# Altium footprint library Mirror_Footprints.PcbLib: 29 footprints (part 1 of 3)
Each footprint in its own frame and in the unit in brackets; x right, y up, seen from the top. Pads: shape width x height; smd on the part's side, far side on the other; paste and mask are expansions set on the pad; w line width, h text height; cw(c..) or ccw(c..) is an arc to the next point about the centre after c.
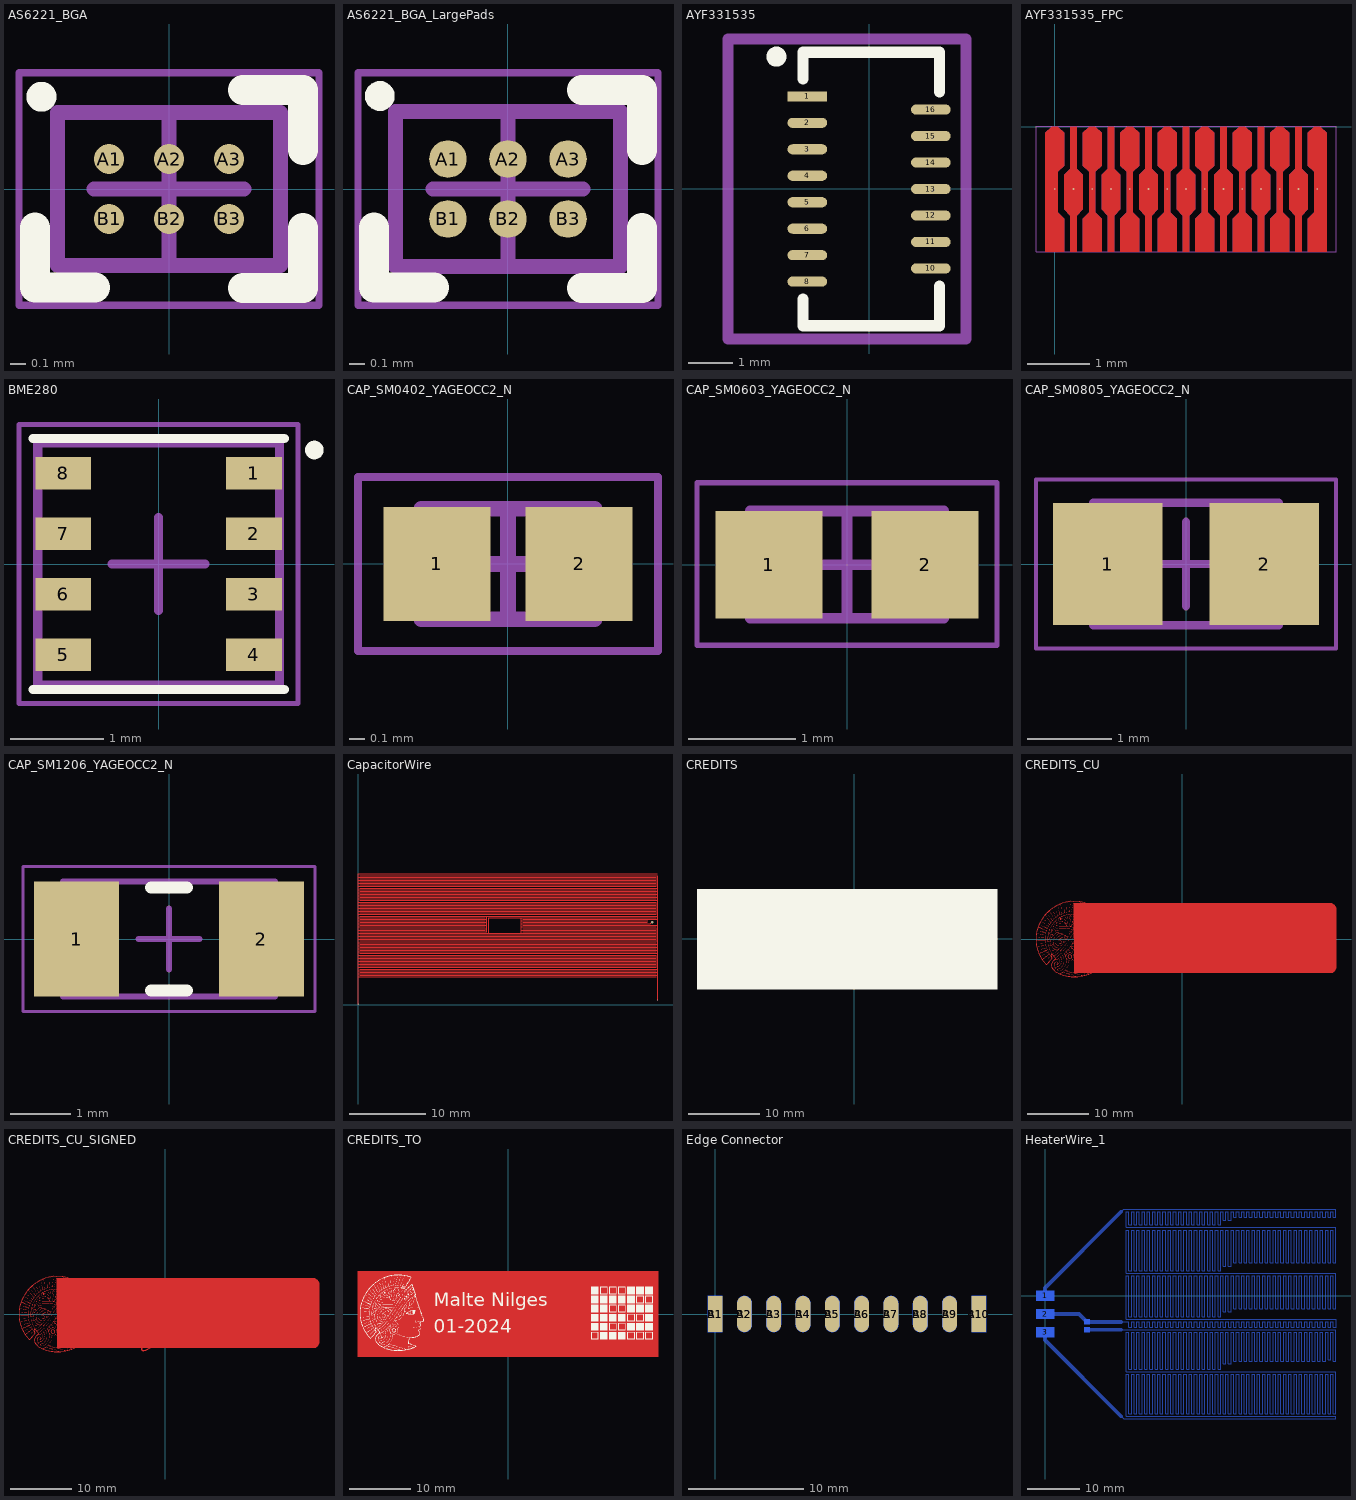
[diagram p0: the footprints below, top view; thin cyan lines are the x and y axes]

## AS6221_BGA [mm] "BGA, 6-Leads, Body 1,02x1,50mmx0,53mm, Pitch 0,40mm"
height 0.53
pads (6):
  round 0.2 smd: A1(-0.4,0.2) A2(0,0.2) A3(0.4,0.2) B1(-0.4,-0.2) B2(0,-0.2) B3(0.4,-0.2)
Top Overlay:
  circle w0.1: c-0.85,0.615 r0.05
  lines w0.2: -0.893,-0.256 -0.893,-0.656 -0.493,-0.656 ; 0.494,-0.66 0.894,-0.66 0.894,-0.26 ; 0.494,0.661 0.894,0.661 0.894,0.261
Top Courtyard:
  lines w0.05: -1,-0.775 -1,0.775 1,0.775 1,-0.775 -1,-0.775
  lines w0.1: -0.5,0 0.5,0 ; 0,-0.5 0,0.5
Mechanical 13:
  lines w0.1: -0.745,-0.51 -0.745,0.51 0.745,0.51 0.745,-0.51 -0.745,-0.51
3D body: height 0.55, standoff 0.18, extent -0.745,-0.51 0.745,0.51

## AS6221_BGA_LargePads [mm] "BGA, 6-Leads, Body 1.50x1.02mmx0.55mm, Pitch 0.40mm"
height 0.55
pads (6):
  round 0.25 smd paste-0.013: A1(-0.4,0.2) A2(0,0.2) A3(0.4,0.2) B1(-0.4,-0.2) B2(0,-0.2) B3(0.4,-0.2)
Top Overlay:
  circle w0.1: c-0.855,0.62 r0.05
  lines w0.2: -0.893,-0.256 -0.893,-0.656 -0.493,-0.656 ; 0.494,-0.66 0.894,-0.66 0.894,-0.26 ; 0.494,0.661 0.894,0.661 0.894,0.261
Top Solder:
  region: -0.625,-0.425 0.625,-0.425 0.625,0.425 -0.625,0.425
Top Courtyard:
  lines w0.05: -1,-0.775 -1,0.775 1,0.775 1,-0.775 -1,-0.775
  lines w0.1: -0.5,0 0.5,0 ; 0,-0.5 0,0.5
Top Assembly:
  lines w0.1: -0.75,-0.515 -0.75,0.515 0.75,0.515 0.75,-0.515 -0.75,-0.515
3D body: height 0.55, standoff 0.2, extent -0.75,-0.515 0.75,0.515

## AYF331535 [mm]
pads (15):
  rect 0.9x0.23 smd: 1(-1.4,2.1)
  oval 0.9x0.23 smd: 2(-1.4,1.5) 3(-1.4,0.9) 4(-1.4,0.3) 5(-1.4,-0.3) 6(-1.4,-0.9) 7(-1.4,-1.5) 8(-1.4,-2.1) 10(1.4,-1.8) 11(1.4,-1.2) 12(1.4,-0.6) 13(1.4,0) 14(1.4,0.6) 15(1.4,1.2) 16(1.4,1.8)
Top Overlay:
  circle w0.254: c-2.1,3 r0.1
  lines w0.254: -1.5,-2.5 -1.5,-3.1 1.6,-3.1 1.6,-2.2 ; -1.5,2.5 -1.5,3.1 1.6,3.1 1.6,2.2
Top Courtyard:
  lines w0.254: -3.2,-3.4 2.2,-3.4 2.2,3.4 -3.2,3.4 -3.2,-3.4
3D body: height 0.9, standoff 0, extent -1.4,-3 1.55,3

## AYF331535_FPC [mil]
pads (15):
  round 1 all layers, no hole paste-99999 mask+3.94: 1(0,-39.37) 2(11.81,-39.37)
  round 1 all layers, no hole paste-99999: 3(23.62,-39.37) 4(35.43,-39.37) 5(47.24,-39.37) 6(59.06,-39.37) 7(70.87,-39.37) 8(82.68,-39.37) 9(94.49,-39.37) 10(106.3,-39.37) 11(118.11,-39.37) 12(129.92,-39.37) 13(141.73,-39.37) 14(153.54,-39.37) 15(165.35,-39.37)
Top Layer:
  region: 159.45,-78.74 159.45,-58.07 163.39,-54.13 163.39,-28.54 159.45,-24.61 159.45,-3.94 163.39,0 167.32,0 171.26,-3.94 171.26,-78.74
  region: 147.64,-52.17 147.64,-30.51 151.57,-26.57 151.57,0 155.51,0 155.51,-26.57 159.45,-30.51 159.45,-52.17 155.51,-56.1 155.51,-78.74 151.57,-78.74 151.57,-56.1
  region: 135.83,-78.74 135.83,-58.07 139.76,-54.13 139.76,-28.54 135.83,-24.61 135.83,-3.94 139.76,0 143.7,0 147.64,-3.94 147.64,-24.61 143.7,-28.54 143.7,-54.13 147.64,-58.07 147.64,-78.74
  region: 124.02,-52.17 124.02,-30.51 127.95,-26.57 127.95,0 131.89,0 131.89,-26.57 135.83,-30.51 135.83,-52.17 131.89,-56.1 131.89,-78.74 127.95,-78.74 127.95,-56.1
  region: 112.2,-78.74 112.2,-58.07 116.14,-54.13 116.14,-28.54 112.2,-24.61 112.2,-3.94 116.14,0 120.08,0 124.02,-3.94 124.02,-24.61 120.08,-28.54 120.08,-54.13 124.02,-58.07 124.02,-78.74
  region: 100.39,-52.17 100.39,-30.51 104.33,-26.57 104.33,0 108.27,0 108.27,-26.57 112.2,-30.51 112.2,-52.17 108.27,-56.1 108.27,-78.74 104.33,-78.74 104.33,-56.1
  region: 88.58,-78.74 88.58,-58.07 92.52,-54.13 92.52,-28.54 88.58,-24.61 88.58,-3.94 92.52,0 96.46,0 100.39,-3.94 100.39,-24.61 96.46,-28.54 96.46,-54.13 100.39,-58.07 100.39,-78.74
  region: 76.77,-52.17 76.77,-30.51 80.71,-26.57 80.71,0 84.65,0 84.65,-26.57 88.58,-30.51 88.58,-52.17 84.65,-56.1 84.65,-78.74 80.71,-78.74 80.71,-56.1
  region: 53.15,-52.17 53.15,-30.51 57.09,-26.57 57.09,0 61.02,0 61.02,-26.57 64.96,-30.51 64.96,-52.17 61.02,-56.1 61.02,-78.74 57.09,-78.74 57.09,-56.1
  region: 64.96,-78.74 64.96,-58.07 68.9,-54.13 68.9,-28.54 64.96,-24.61 64.96,-3.94 68.9,0 72.83,0 76.77,-3.94 76.77,-24.61 72.83,-28.54 72.83,-54.13 76.77,-58.07 76.77,-78.74
  region: 41.34,-78.74 41.34,-58.07 45.28,-54.13 45.28,-28.54 41.34,-24.61 41.34,-3.94 45.28,0 49.21,0 53.15,-3.94 53.15,-24.61 49.21,-28.54 49.21,-54.13 53.15,-58.07 53.15,-78.74
  region: 29.53,-52.17 29.53,-30.51 33.46,-26.57 33.46,0 37.4,0 37.4,-26.57 41.34,-30.51 41.34,-52.17 37.4,-56.1 37.4,-78.74 33.46,-78.74 33.46,-56.1
  region: 17.72,-78.74 17.72,-58.07 21.65,-54.13 21.65,-28.54 17.72,-24.61 17.72,-3.94 21.65,0 25.59,0 29.53,-3.94 29.53,-24.61 25.59,-28.54 25.59,-54.13 29.53,-58.07 29.53,-78.74
  region: 5.91,-52.17 5.91,-30.51 9.84,-26.57 9.84,0 13.78,0 13.78,-26.57 17.72,-30.51 17.72,-52.17 13.78,-56.1 13.78,-78.74 9.84,-78.74 9.84,-56.1
  region: -5.91,-78.74 -5.91,-3.94 -1.97,0 1.97,0 5.91,-3.94 5.91,-24.61 1.97,-28.54 1.97,-54.13 5.91,-58.07 5.91,-78.74
Bottom Layer:
  region: 159.45,-78.74 159.45,-58.07 163.39,-54.13 163.39,-28.54 159.45,-24.61 159.45,-3.94 163.39,0 167.32,0 171.26,-3.94 171.26,-78.74
  region: 147.64,-52.17 147.64,-30.51 151.57,-26.57 151.57,0 155.51,0 155.51,-26.57 159.45,-30.51 159.45,-52.17 155.51,-56.1 155.51,-78.74 151.57,-78.74 151.57,-56.1
  region: 135.83,-78.74 135.83,-58.07 139.76,-54.13 139.76,-28.54 135.83,-24.61 135.83,-3.94 139.76,0 143.7,0 147.64,-3.94 147.64,-24.61 143.7,-28.54 143.7,-54.13 147.64,-58.07 147.64,-78.74
  region: 124.02,-52.17 124.02,-30.51 127.95,-26.57 127.95,0 131.89,0 131.89,-26.57 135.83,-30.51 135.83,-52.17 131.89,-56.1 131.89,-78.74 127.95,-78.74 127.95,-56.1
  region: 112.2,-78.74 112.2,-58.07 116.14,-54.13 116.14,-28.54 112.2,-24.61 112.2,-3.94 116.14,0 120.08,0 124.02,-3.94 124.02,-24.61 120.08,-28.54 120.08,-54.13 124.02,-58.07 124.02,-78.74
  region: 100.39,-52.17 100.39,-30.51 104.33,-26.57 104.33,0 108.27,0 108.27,-26.57 112.2,-30.51 112.2,-52.17 108.27,-56.1 108.27,-78.74 104.33,-78.74 104.33,-56.1
  region: 88.58,-78.74 88.58,-58.07 92.52,-54.13 92.52,-28.54 88.58,-24.61 88.58,-3.94 92.52,0 96.46,0 100.39,-3.94 100.39,-24.61 96.46,-28.54 96.46,-54.13 100.39,-58.07 100.39,-78.74
  region: 76.77,-52.17 76.77,-30.51 80.71,-26.57 80.71,0 84.65,0 84.65,-26.57 88.58,-30.51 88.58,-52.17 84.65,-56.1 84.65,-78.74 80.71,-78.74 80.71,-56.1
  region: 53.15,-52.17 53.15,-30.51 57.09,-26.57 57.09,0 61.02,0 61.02,-26.57 64.96,-30.51 64.96,-52.17 61.02,-56.1 61.02,-78.74 57.09,-78.74 57.09,-56.1
  region: 64.96,-78.74 64.96,-58.07 68.9,-54.13 68.9,-28.54 64.96,-24.61 64.96,-3.94 68.9,0 72.83,0 76.77,-3.94 76.77,-24.61 72.83,-28.54 72.83,-54.13 76.77,-58.07 76.77,-78.74
  region: 41.34,-78.74 41.34,-58.07 45.28,-54.13 45.28,-28.54 41.34,-24.61 41.34,-3.94 45.28,0 49.21,0 53.15,-3.94 53.15,-24.61 49.21,-28.54 49.21,-54.13 53.15,-58.07 53.15,-78.74
  region: 29.53,-52.17 29.53,-30.51 33.46,-26.57 33.46,0 37.4,0 37.4,-26.57 41.34,-30.51 41.34,-52.17 37.4,-56.1 37.4,-78.74 33.46,-78.74 33.46,-56.1
  region: 17.72,-78.74 17.72,-58.07 21.65,-54.13 21.65,-28.54 17.72,-24.61 17.72,-3.94 21.65,0 25.59,0 29.53,-3.94 29.53,-24.61 25.59,-28.54 25.59,-54.13 29.53,-58.07 29.53,-78.74
  region: 5.91,-52.17 5.91,-30.51 9.84,-26.57 9.84,0 13.78,0 13.78,-26.57 17.72,-30.51 17.72,-52.17 13.78,-56.1 13.78,-78.74 9.84,-78.74 9.84,-56.1
  region: -5.91,-78.74 -5.91,-3.94 -1.97,0 1.97,0 5.91,-3.94 5.91,-24.61 1.97,-28.54 1.97,-54.13 5.91,-58.07 5.91,-78.74
Mechanical 1:
  lines w0.39: -11.81,-78.74 177.17,-78.74 177.17,0 -11.81,0 -11.81,-78.74

## BME280 [mm]
height 0.8
pads (8):
  rect 0.6x0.35 smd: 1(1.025,0.975) 2(1.025,0.325) 3(1.025,-0.325) 4(1.025,-0.975) 5(-1.025,-0.975) 6(-1.025,-0.325) 7(-1.025,0.325) 8(-1.025,0.975)
Top Overlay:
  circle w0.1: c1.675,1.225 r0.05
  lines w0.1: -1.35,-1.35 1.35,-1.35 ; -1.35,1.35 1.35,1.35
Top Courtyard:
  lines w0.05: -1.5,-1.5 1.5,-1.5 1.5,1.5 -1.5,1.5 -1.5,-1.5
  lines w0.1: -0.5,0 0.5,0 ; 0,-0.5 0,0.5
Top Assembly:
  lines w0.1: -1.3,-1.3 1.3,-1.3 1.3,1.3 -1.3,1.3 -1.3,-1.3
3D body: height 1, standoff 0, extent -1.25,-1.25 1.25,1.25

## CAP_SM0402_YAGEOCC2_N [mm] "Capacitor, Yageo CC Class2, SM0402, IPC Medium Density"
height 0.9
pads (2):
  rect 0.68x0.72 smd: 1(-0.45,0) 2(0.45,0)
Mechanical 13:
  lines w0.1: -0.55,-0.35 0.55,-0.35 0.55,0.35 -0.55,0.35 -0.55,-0.35
Mechanical 15:
  lines w0.05: -0.95,-0.55 0.95,-0.55 0.95,0.55 -0.95,0.55 -0.95,-0.55
  lines w0.1: -0.35,0 0.35,0 ; 0,-0.35 0,0.35
3D body: height 0.6, standoff 0, extent 0.3,-0.35 0.55,0.35
3D body: height 0.6, standoff 0, extent -0.55,-0.35 -0.3,0.35
3D body: height 0.6, standoff 0, extent -0.3,-0.35 0.3,0.35

## CAP_SM0603_YAGEOCC2_N [mm] "Capacitor, Yageo CC Class2, SM0603, IPC Medium Density"
height 0.9
pads (2):
  rect 1x1 smd: 1(-0.727,0) 2(0.727,0)
Mechanical 13:
  lines w0.1: -0.9,-0.5 0.9,-0.5 0.9,0.5 -0.9,0.5 -0.9,-0.5
Mechanical 15:
  lines w0.05: -1.397,-0.75 1.397,-0.75 1.397,0.762 -1.397,0.762 -1.397,-0.75
  lines w0.1: -0.5,0 0.5,0 ; 0,-0.5 0,0.5
3D body: height 0.9, standoff 0, extent 0.5,-0.5 0.9,0.5
3D body: height 0.9, standoff 0, extent -0.9,-0.5 -0.5,0.5
3D body: height 0.9, standoff 0, extent -0.5,-0.5 0.5,0.5

## CAP_SM0805_YAGEOCC2_N [mm] "Capacitor, Yageo CC Class2, SM0805, IPC Medium Density"
height 1.45
pads (2):
  rect 1.3x1.45 smd: 1(-0.927,0) 2(0.927,0)
Mechanical 13:
  lines w0.1: -1.1,-0.725 -1.1,0.725 1.1,0.725 1.1,-0.725 -1.1,-0.725
Mechanical 15:
  lines w0.05: -1.778,-1 -1.778,1 1.778,1 1.778,-1 -1.778,-1
  lines w0.1: -0.5,0 0.5,0 ; 0,-0.5 0,0.5
3D body: height 1.45, standoff 0, extent -0.6,-0.725 0.6,0.725
3D body: height 1.45, standoff 0, extent -1.1,-0.725 -0.6,0.725
3D body: height 1.45, standoff 0, extent 0.6,-0.725 1.1,0.725

## CAP_SM1206_YAGEOCC2_N [mm] "Capacitor, Yageo CC Class2, SM1206, IPC Medium Density"
height 1.8
pads (2):
  rect 1.4x1.9 smd: 1(-1.527,0) 2(1.527,0)
Top Overlay:
  lines w0.2: -0.3,-0.85 0.3,-0.85 ; -0.3,0.85 0.3,0.85
Mechanical 13:
  lines w0.1: -1.75,-0.95 -1.75,0.95 1.75,0.95 1.75,-0.95 -1.75,-0.95
Mechanical 15:
  lines w0.05: -2.413,-1.2 -2.413,1.2 2.413,1.2 2.413,-1.2 -2.413,-1.2
  lines w0.1: -0.5,0 0.5,0 ; 0,-0.5 0,0.5
3D body: height 1.8, standoff 0, extent -1.25,-0.95 1.25,0.95
3D body: height 1.8, standoff 0, extent -1.75,-0.95 -1.25,0.95
3D body: height 1.8, standoff 0, extent 1.25,-0.95 1.75,0.95

## CapacitorWire [mil]
pads (2):
  rect 4x4 smd paste-99999 mask+0: 1(0.06,3.75) 2(1536.06,24.45)
via 1508.06,423.75 diameter 13.78 hole 5.91
Top Layer:
  lines w4: 0.06,3.75 0.06,674.21 ; 0.06,143.75 1528.06,143.75 ; 0.06,159.75 1528.06,159.75 ; 0.06,175.75 1528.06,175.75 ; 0.06,191.75 1528.06,191.75 ; 0.06,207.75 1528.06,207.75 ; 0.06,223.75 1528.06,223.75 ; 0.06,239.75 1528.06,239.75 ; 0.06,255.75 1528.06,255.75 ; 0.06,271.75 1528.06,271.75 ; 0.06,287.75 1528.06,287.75 ; 0.06,303.75 1528.06,303.75 ; 0.06,319.75 1528.06,319.75 ; 0.06,335.75 1528.06,335.75 ; 0.06,351.75 1528.06,351.75 ; 0.06,367.75 668.06,367.75 ; 0.06,383.75 652,383.75 ; 0.06,399.75 652,399.75 ; 0.06,415.75 652,415.75 ; 0.06,431.75 652,431.75 ; 0.06,447.75 652,447.75 ; 0.06,463.75 1528.06,463.75 ; 0.06,479.75 1528.06,479.75 ; 0.06,495.75 1528.06,495.75 ; 0.06,511.75 1528.06,511.75 ; 0.06,527.75 1528.06,527.75 ; 0.06,543.75 1528.06,543.75 ; 0.06,559.75 1528.06,559.75 ; 0.06,575.75 1528.06,575.75 ; 0.06,591.75 1528.06,591.75 ; 0.06,607.75 1528.06,607.75 ; 0.06,623.75 1528.06,623.75 ; 0.06,639.75 1528.06,639.75 ; 0.06,655.75 1528.06,655.75 ; 8.07,151.75 1536.02,151.75 ; 8.07,167.75 1536.02,167.75 ; 8.07,183.75 1536.02,183.75 ; 8.07,199.75 1536.02,199.75 ; 8.07,215.75 1536.02,215.75 ; 8.07,231.75 1536.02,231.75 ; 8.07,247.75 1536.02,247.75 ; 8.07,263.75 1536.02,263.75 ; 8.07,279.75 1536.02,279.75 ; 8.07,295.75 1536.02,295.75 ; 8.07,311.75 1536.02,311.75 ; 8.07,327.75 1536.02,327.75 ; 8.07,343.75 1536.02,343.75 ; 8.06,359.75 668.06,359.75 1536.06,359.75 ; 8.06,375.75 660.01,375.75 660.01,455.75 ; 8.06,407.75 659.98,407.75 ; 8.06,423.75 659.94,423.75 ; 8.06,439.75 659.91,439.75 ; 8.07,455.75 1536.02,455.75 ; 8.07,471.75 1536.02,471.75 ; 8.07,487.75 1536.02,487.75 ; 8.07,503.75 1536.02,503.75 ; 8.07,519.75 1536.02,519.75 ; 8.07,535.75 1536.02,535.75 ; 8.07,551.75 1536.02,551.75 ; 8.07,567.75 1536.02,567.75 ; 8.07,583.75 1536.02,583.75 ; 8.07,599.75 1536.02,599.75 ; 8.07,615.75 1536.02,615.75 ; 8.07,631.75 1536.02,631.75 ; 8.07,647.75 1536.02,647.75 ; 8.06,663.75 1536.02,663.75 ; 8.16,391.75 660.01,391.75 ; 844.06,375.75 1536.06,375.75 ; 844.06,391.75 1536.06,391.75 ; 844.06,407.75 1536.06,407.75 ; 844.06,423.75 1484.06,423.75 1484.06,439.72 ; 844.06,439.75 1536.06,439.75 ; 1476.06,431.75 836.06,431.75 ; 1508.06,423.75 1505.83,423.75 1497.83,415.75 836.06,415.75 ; 1528.06,367.75 836.06,367.75 ; 1528.06,383.75 836.06,383.75 ; 1528.06,399.75 836.06,399.75 ; 1528.06,447.75 836.06,447.75 ; 1536.06,24.45 1536.06,439.75 ; 1536.06,471.75 1536.06,487.75 ; 1536.06,661.4 1536.06,487.75 ; 668.06,367.75 836.06,367.75 ; 668.06,367.75 668.06,447.75 836.06,447.75 ; 836.06,367.75 836.06,383.75 ; 836.06,383.75 836.06,399.75 ; 836.06,399.75 836.06,415.75 ; 836.06,415.75 836.06,431.75 ; 836.06,431.75 836.06,447.75 ; 1536.06,439.75 1536.06,487.75
  lines w5.51: 0.06,674.21 1535.43,674.21

## CREDITS [mm]
Top Overlay:
  drawing of 8 lines, arcs and shapes, not listed
  text "01-2024" at -8.76,-5.76 h2.5
  text "Malte Nilges" at -8.76,-0.927 h2.5

## CREDITS_CU [mm]
Top Layer:
  pour cut-out: 24.3,5.8 24.3,-5.5 -17.606,-5.5 -17.696,5.8
  region: 22.746,1.118 22.746,1.273 23.909,1.273 23.909,0.11 22.746,0.11 22.746,1.04
  region: 23.909,1.583 22.746,1.583 22.746,2.746 23.909,2.746 hole: 23.753,2.591 22.901,2.591 22.901,1.738 23.753,1.738 23.753,2.513
  region: 23.909,-4.309 22.746,-4.309 22.746,-3.146 23.909,-3.146 hole: 23.753,-3.301 22.901,-3.301 22.901,-4.153 23.753,-4.153
  region: 22.746,-2.138 22.746,-1.673 23.909,-1.673 23.909,-2.836 22.746,-2.836 22.746,-2.216
  region: 23.753,-0.2 23.909,-0.2 23.909,-1.363 22.746,-1.363 22.746,-0.2 23.676,-0.2
  region: 22.746,3.831 22.746,4.219 23.909,4.219 23.909,3.056 22.746,3.056 22.746,3.753
  region: 21.816,1.273 22.436,1.273 22.436,0.11 21.273,0.11 21.273,1.273 21.738,1.273
  region: 21.273,-2.836 21.273,-1.673 22.436,-1.673 22.436,-2.836 21.35,-2.836
  region: 22.436,-4.309 21.273,-4.309 21.273,-3.146 22.436,-3.146 hole: 22.281,-3.301 21.428,-3.301 21.428,-4.076 21.428,-4.153 22.281,-4.153
  region: 22.436,3.211 22.436,3.056 21.273,3.056 21.273,4.219 22.436,4.219 22.436,3.288
  region: 22.436,-1.363 21.273,-1.363 21.273,-0.2 22.436,-0.2 hole: 22.281,-0.355 21.428,-0.355 21.428,-0.665 21.428,-0.743 21.428,-1.208 22.281,-1.208
  region: 22.436,1.893 22.436,1.816 22.436,1.583 21.273,1.583 21.273,2.746 22.436,2.746 hole: 22.281,2.591 21.428,2.591 21.428,1.738 22.281,1.738
  region: 20.963,2.436 20.963,1.583 19.8,1.583 19.8,2.746 20.963,2.746 20.963,2.513
  region: 20.963,-4.309 19.8,-4.309 19.8,-3.146 20.963,-3.146 hole: 20.808,-3.301 19.955,-3.301 19.955,-4.153 20.808,-4.153 20.808,-3.533 20.808,-3.456
  region: 20.963,3.366 20.963,3.056 19.8,3.056 19.8,4.219 20.963,4.219 20.963,3.443
  region: 20.575,-2.836 19.8,-2.836 19.8,-1.673 20.963,-1.673 20.963,-2.836 20.653,-2.836
  region: 19.955,0.11 19.8,0.11 19.8,1.273 20.963,1.273 20.963,0.11 20.033,0.11
  region: 20.963,-1.363 19.8,-1.363 19.8,-0.51 19.8,-0.433 19.8,-0.2 20.963,-0.2 hole: 20.808,-0.355 19.955,-0.355 19.955,-0.665 19.955,-0.743 19.955,-1.208 20.808,-1.208
  region: 19.49,-2.836 18.327,-2.836 18.327,-2.138 18.327,-2.06 18.327,-1.673 19.49,-1.673 hole: 19.335,-1.828 18.482,-1.828 18.482,-2.138 18.482,-2.216 18.482,-2.681 19.335,-2.681
  region: 19.102,-3.146 19.49,-3.146 19.49,-4.309 18.327,-4.309 18.327,-3.146 19.025,-3.146
  region: 19.49,0.11 18.327,0.11 18.327,1.273 19.49,1.273 hole: 19.335,1.118 18.482,1.118 18.482,0.73 18.482,0.653 18.482,0.265 19.335,0.265
  region: 18.327,2.513 18.327,2.746 19.49,2.746 19.49,1.583 18.327,1.583 18.327,2.436
  region: 19.49,3.056 18.327,3.056 18.327,4.219 19.49,4.219 hole: 19.335,4.064 18.482,4.064 18.482,3.211 19.335,3.211
  region: 19.335,-1.363 18.327,-1.363 18.327,-0.2 19.49,-0.2 19.49,-1.363 19.412,-1.363
  region: 16.854,2.126 16.854,2.746 18.017,2.746 18.017,1.583 16.854,1.583 16.854,2.048
  region: 18.017,-3.611 18.017,-4.309 16.854,-4.309 16.854,-3.146 18.017,-3.146 18.017,-3.533
  region: 16.854,-0.433 16.854,-0.2 18.017,-0.2 18.017,-1.363 16.854,-1.363 16.854,-0.51
  region: 18.017,-1.75 18.017,-2.836 16.854,-2.836 16.854,-1.673 18.017,-1.673 hole: 17.862,-1.828 17.009,-1.828 17.009,-2.448 17.009,-2.526 17.009,-2.681 17.862,-2.681
  region: 18.017,3.056 16.854,3.056 16.854,4.219 18.017,4.219 hole: 17.862,4.064 17.009,4.064 17.009,3.211 17.862,3.211
  region: 18.017,0.11 16.854,0.11 16.854,1.273 18.017,1.273 hole: 17.862,1.118 17.009,1.118 17.009,0.265 17.862,0.265
  region: 15.381,0.808 15.381,1.273 16.544,1.273 16.544,0.11 15.381,0.11 15.381,0.73
  region: 16.544,2.513 16.544,1.583 15.381,1.583 15.381,2.746 16.544,2.746 16.544,2.591
  region: 16.002,-0.2 16.544,-0.2 16.544,-1.363 15.381,-1.363 15.381,-0.2 15.924,-0.2
  region: 15.381,-4.153 15.381,-3.146 16.544,-3.146 16.544,-4.309 15.381,-4.309 15.381,-4.231
  region: 16.544,3.056 15.381,3.056 15.381,4.219 16.544,4.219 hole: 16.389,4.064 15.536,4.064 15.536,3.676 15.536,3.598 15.536,3.211 16.389,3.211
  region: 16.234,-2.836 15.381,-2.836 15.381,-1.673 16.544,-1.673 16.544,-2.836 16.312,-2.836
  region: 13.986,1.583 13.909,1.583 13.909,2.746 15.071,2.746 15.071,1.583 14.064,1.583
  region: 15.071,0.575 15.071,0.11 13.909,0.11 13.909,1.273 15.071,1.273 15.071,0.653
  region: 14.684,4.219 15.071,4.219 15.071,3.056 13.909,3.056 13.909,4.219 14.606,4.219
  region: 14.994,-2.836 13.909,-2.836 13.909,-1.673 15.071,-1.673 15.071,-2.836
  region: 15.071,-1.208 15.071,-1.363 13.909,-1.363 13.909,-0.2 15.071,-0.2 15.071,-1.13
  region: 15.071,-4.309 13.909,-4.309 13.909,-3.146 15.071,-3.146 hole: 14.916,-3.301 14.064,-3.301 14.064,-4.153 14.916,-4.153 14.916,-3.921 14.916,-3.843
  region: -14.858,0.379 -14.822,0.343 -14.837,0.286 -14.887,0.235 -14.959,0.192 -14.966,0.142 -14.952,0.099 -14.966,-0.074 -15.024,-0.174 -15.045,-0.196 -15.117,-0.225 -15.175,-0.239 -15.362,-0.254 -15.836,-0.239 -15.879,-0.225 -16.002,-0.203 -16.073,-0.189 -16.145,-0.16 -16.224,-0.138 -16.332,-0.131 -16.339,-0.095 -16.304,-0.045 -16.253,0.005 -16.224,0.02 -16.167,0.077 -16.138,0.092 -16.109,0.12 -15.807,0.264 -15.75,0.279 -15.642,0.314 -15.635,0.322 -15.462,0.35 -15.405,0.365 -15.218,0.379 -15.16,0.394 hole: -15.448,0.25 -15.491,0.235 -15.52,0.221 -15.541,0.199 -15.556,0.142 -15.541,-0.059 -15.505,-0.138 -15.455,-0.146 -15.326,-0.131 -15.297,-0.103 -15.333,-0.009 -15.34,0.012 -15.34,0.027 -15.347,0.106 -15.34,0.243 hole: -15.735,0.178 -15.743,0.171 -15.75,0.163 -15.843,0.128 -16.095,-0.009 -16.102,-0.045 -16.081,-0.067 -16.023,-0.081 -15.944,-0.103 -15.872,-0.117 -15.757,-0.131 -15.678,-0.138 -15.642,-0.117 -15.656,0.07 -15.671,0.128 -15.685,0.171
  region: -16.081,2.925 -16.102,2.989 -16.088,3.061 -16.052,3.097 -15.994,3.112 -15.937,3.097 -15.901,3.061 -15.879,2.982 -15.901,2.932 -15.922,2.91 -15.994,2.881 -16.066,2.91 -16.073,2.917
  region: -16.354,2.709 -16.311,2.752 -16.239,2.738 -16.217,2.716 -16.203,2.687 -16.188,2.644 -16.203,2.601 -16.224,2.565 -16.282,2.551 -16.339,2.565 -16.39,2.615 -16.375,2.687 -16.361,2.702
  region: -16.656,2.292 -16.62,2.342 -16.526,2.349 -16.49,2.313 -16.505,2.213 -16.541,2.177 -16.613,2.191 -16.649,2.227 -16.663,2.285
  region: -18.223,-2.569 -18.094,-2.67 -18.072,-2.691 -18.029,-2.792 -18.044,-2.979 -18.101,-3.079 -18.123,-3.101 -18.151,-3.115 -18.18,-3.144 -18.252,-3.173 -18.374,-3.18 -18.446,-3.166 -18.525,-3.115 -18.619,-3.022 -18.64,-2.943 -18.648,-2.792 -18.576,-2.662 -18.525,-2.612 -18.504,-2.605 -18.497,-2.598 -18.396,-2.554 hole: -18.295,-2.67 -18.41,-2.684 -18.425,-2.684 -18.504,-2.749 -18.533,-2.821 -18.547,-2.878 -18.511,-2.972 -18.489,-2.993 -18.475,-3.022 -18.396,-3.058 -18.338,-3.072 -18.259,-3.051 -18.209,-3.015 -18.159,-2.964 -18.144,-2.907 -18.13,-2.864 -18.159,-2.777 -18.223,-2.698
  region: 406 vertices and 73 holes, not listed, extent -23.868,-6.207 -13.456,6.218
  region: -19.892,3.183 -19.927,3.219 -19.942,3.277 -19.927,3.363 -19.848,3.399 -19.776,3.385 -19.741,3.349 -19.755,3.219 -19.791,3.183 -19.877,3.183
  pour cut-out: 24.3,5.8 24.379,5.8 24.533,5.769 24.679,5.709 24.81,5.621 24.921,5.51 25.009,5.379 25.069,5.233 25.1,5.079 25.1,5 25.1,-4.7 25.1,-4.779 25.069,-4.933 25.009,-5.079 24.921,-5.21 24.81,-5.321 24.679,-5.409 24.533,-5.469 24.379,-5.5 24.3,-5.5
  text "Malte Nilges" at -11.796,1.067 h2.2
  text "01-2024" at -11.848,-3.3 h2.2

## CREDITS_CU_SIGNED [mm]
Top Layer:
  drawing of 104 lines, arcs and shapes, not listed
  text "01 / 2024" at 3.952,-4.709 h1.3

## CREDITS_TO [mm]
Top Layer:
  pour cut-out: 24.5,7 24.5,-7 -24.5,-7 -24.5,7
Top Overlay:
  drawing of 49 lines, arcs and shapes, not listed
  text "01-2024" at -12.148,-3.1 h2.2
  text "Malte Nilges" at -12.096,1.267 h2.2

## Edge Connector [mm]
pads (20):
  rect 1.27x3.14 smd: A1(0,0) A10(22.86,0)
  oval 1.27x3.14 smd: A2(2.54,0) A3(5.08,0) A4(7.62,0) A5(10.16,0) A6(12.7,0) A7(15.24,0) A8(17.78,0) A9(20.32,0)
  rect 1.27x3.14 smd far side: B1(0,0) B10(22.86,0)
  oval 1.27x3.14 smd far side: B2(2.54,0) B3(5.08,0) B4(7.62,0) B5(10.16,0) B6(12.7,0) B7(15.24,0) B8(17.78,0) B9(20.32,0)

## HeaterWire_1 [mm]
pads (5):
  rect 3.45x1.85 smd far side: 1(0,0) 2(0,-3.5) 3(0,-7)
  rect 1x1 smd far side: ""(8,-5) ""(8,-6.5)
Bottom Layer:
  lines w0.2: 14.5,-23 15,-23.5 15.5,-23.5 55.5,-23.5 55.5,-23 15.5,-23 15.5,-22.5 15.5,-15 16,-15 16,-22.5 16.5,-22.5 16.5,-15 17,-15 17,-22.5 17.5,-22.5 17.5,-15 18,-15 18,-22.5 18.5,-22.5 18.5,-15 19,-15 19,-22.5 19.5,-22.5 19.5,-15 20,-15 20,-22.5 20.5,-22.5 20.5,-15 21,-15 21,-22.5 21.5,-22.5 21.5,-15 22,-15 22,-22.5 22.5,-22.5 22.5,-15 23,-15 23,-22.5 23.5,-22.5 23.5,-15 24,-15 24,-22.5 24.5,-22.5 24.5,-15 25,-15 25,-22.5 25.5,-22.5 25.5,-15 26,-15 26,-22.5 26.5,-22.5 26.5,-15 27,-15 27,-22.5 27.5,-22.5 27.5,-15 28,-15 28,-22.5 28.5,-22.5 28.5,-15 29,-15 29,-22.5 29.5,-22.5 29.5,-15 30,-15 30,-22.5 30.5,-22.5 30.5,-15 31,-15 31,-22.5 31.5,-22.5 31.5,-15 32,-15 32,-22.5 32.5,-22.5 32.5,-15 33,-15 33,-22.5 33.5,-22.5 33.5,-15 34,-15 34,-22.5 34.5,-22.5 34.5,-15 34.963,-15 34.963,-22.5 35.5,-22.5 35.5,-15 36,-15 36,-22.5 36.5,-22.5 36.5,-15 37,-15 37,-22.5 37.5,-22.5 37.5,-15 38,-15 38,-22.5 38.5,-22.5 38.5,-15 39,-15 39,-22.5 39.5,-22.5 39.5,-15 40,-15 40,-22.5 40.5,-22.5 40.5,-15 41,-15 41,-22.5 41.5,-22.5 41.5,-15 42,-15 42,-22.5 42.5,-22.5 42.5,-15 43,-15 43,-22.5 43.5,-22.5 43.5,-15 44,-15 44,-22.5 44.5,-22.5 44.5,-15 45,-15 45,-22.5 45.5,-22.5 45.5,-15 46,-15 46,-22.5 46.5,-22.5 46.5,-15 47,-15 47,-22.5 47.5,-22.5 47.5,-15 48,-15 48,-22.5 48.5,-22.5 48.5,-15 49,-15 49,-22.5 49.5,-22.5 49.5,-15 50,-15 50,-22.5 50.5,-22.5 50.5,-15 51,-15 51,-22.5 51.5,-22.5 51.5,-15 52,-15 52,-22.5 52.5,-22.5 52.5,-15 53,-15 53,-22.5 53.5,-22.5 53.5,-15 54,-15 54,-22.5 54.5,-22.5 54.5,-15 55,-15 55,-22.5 55.5,-22.5 55.5,-14.5 15.5,-14.5 15.5,-7 16,-7 16,-14 16.5,-14 16.5,-7 17,-7 17,-14 17.5,-14 17.5,-7 18,-7 18,-14 18.5,-14 18.5,-7 19,-7 19,-14 19.5,-14 19.5,-7 20,-7 20,-14 20.5,-14 20.5,-7 21,-7 21,-14 21.5,-14 21.5,-7 22,-7 22,-14 22.5,-14 22.5,-7 23,-7 23,-14 23.5,-14 23.5,-7 24,-7 24,-14 24.5,-14 24.5,-7 25,-7 25,-14 25.5,-14 25.5,-7 26,-7 26,-14 26.5,-14 26.5,-7 27,-7 27,-14 27.5,-14 27.5,-7 28,-7 28,-14 28.5,-14 28.5,-7 29,-7 29,-14 29.5,-14 29.5,-7 30,-7 30,-14 30.5,-14 30.5,-7 31,-7 31,-14 31.5,-14 31.5,-7 32,-7 32,-14 32.5,-14 32.5,-7 33,-7 33,-14 33.5,-14 33.5,-7 34,-7 34,-13 34.5,-13 34.5,-7 34.963,-7 34.963,-13 35.5,-13 35.5,-7 36,-7 36,-12.5 36.5,-12.5 36.5,-7 37,-7 37,-12.5 37.5,-12.5 37.5,-7 38,-7 38,-12.5 38.5,-12.5 38.5,-7 39,-7 39,-12.5 39.5,-12.5 39.5,-7 40,-7 40,-12.5 40.5,-12.5 40.5,-7 41,-7 41,-12.5 41.5,-12.5 41.5,-7 42,-7 42,-12.5 42.5,-12.5 42.5,-7 43,-7 43,-12.5 43.5,-12.5 43.5,-7 44,-7 44,-12.5 44.5,-12.5 44.5,-7 45,-7 45,-12.5 45.5,-12.5 45.5,-7 46,-7 46,-12.5 46.5,-12.5 46.5,-7 47,-7 47,-12.5 47.5,-12.5 47.5,-7 48,-7 48,-12.5 48.5,-12.5 48.5,-7 49,-7 49,-12.5 49.5,-12.5 49.5,-7 50,-7 50,-12.5 50.5,-12.5 50.5,-7 51,-7 51,-12.5 51.5,-12.5 51.5,-7 52,-7 52,-12.5 52.5,-12.5 52.5,-7 53,-7 53,-12.5 53.5,-12.5 53.5,-7 54,-7 54,-12.25 54.5,-12.25 54.5,-7 55,-7 55,-12.5 55.5,-12.5 55.5,-6.5 14.5,-6.5 ; 14.5,-5 15.5,-5 16,-5 16,-6 16.5,-6 16.5,-5 17,-5 17,-6 17.5,-6 17.5,-5 18,-5 18,-6 18.5,-6 18.5,-5 19,-5 19,-6 19.5,-6 19.5,-5 20,-5 20,-6 20.5,-6 20.5,-5 21,-5 21,-6 21.5,-6 21.5,-5 22,-5 22,-6 22.5,-6 22.5,-5 23,-5 23,-6 23.5,-6 23.5,-5 24,-5 24,-6 24.5,-6 24.5,-5 25,-5 25,-6 25.5,-6 25.5,-5 26,-5 26,-6 26.5,-6 26.5,-5 27,-5 27,-6 27.5,-6 27.5,-5 28,-5 28,-6 28.5,-6 28.5,-5 29,-5 29,-6 29.5,-6 29.5,-5 30,-5 30,-6 30.5,-6 30.5,-5 31,-5 31,-6 31.5,-6 31.5,-5 32,-5 32,-6 32.5,-6 32.5,-5 33,-5 33,-6 33.5,-6 33.5,-5 34,-5 34,-6 34.5,-6 34.5,-5 35,-5 35,-6 35.5,-6 35.5,-5 36,-5 36,-6 36.5,-6 36.5,-5 37,-5 37,-6 37.5,-6 37.5,-5 38,-5 38,-6 38.5,-6 38.5,-5 39,-5 39,-6 39.5,-6 39.5,-5 40,-5 40,-6 40.5,-6 40.5,-5 41,-5 41,-6 41.5,-6 41.5,-5 42,-5 42,-6 42.5,-6 42.5,-5 43,-5 43,-6 43.5,-6 43.5,-5 44,-5 44,-6 44.5,-6 44.5,-5 45,-5 45,-6 45.5,-6 45.5,-5 46,-5 46,-6 46.5,-6 46.5,-5 47,-5 47,-6 47.5,-6 47.5,-5 48,-5 48,-6 48.5,-6 48.5,-5 49,-5 49,-6 49.5,-6 49.5,-5 50,-5 50,-6 50.5,-6 50.5,-5 51,-5 51,-6 51.5,-6 51.5,-5 52,-5 52,-6 52.5,-6 52.5,-5 53,-5 53,-6 53.5,-6 53.5,-5 54,-5 54,-6 54.5,-6 54.5,-5 55,-5 55,-6 55.5,-6 55.5,-4.5 15.5,-4.5 15.5,-4 15.5,3.75 16,3.75 16,-4 16.5,-4 16.5,3.75 17,3.75 17,-4 17.5,-4 17.5,3.75 18,3.75 18,-4 18.5,-4 18.5,3.75 19,3.75 19,-4 19.5,-4 19.5,3.75 20,3.75 20,-4 20.5,-4 20.5,3.75 21,3.75 21,-4 21.5,-4 21.5,3.75 22,3.75 22,-4 22.5,-4 22.5,3.75 23,3.75 23,-4 23.5,-4 23.5,3.75 24,3.75 24,-4 24.5,-4 24.5,3.75 25,3.75 25,-4 25.5,-4 25.5,3.75 26,3.75 26,-4 26.5,-4 26.5,3.75 27,3.75 27,-4 27.5,-4 27.5,3.75 28,3.75 28,-4 28.5,-4 28.5,3.75 29,3.75 29,-4 29.5,-4 29.5,3.75 30,3.75 30,-4 30.5,-4 30.5,3.75 31,3.75 31,-4 31.5,-4 31.5,3.75 32,3.75 32,-4 32.5,-4 32.5,3.75 33,3.75 33,-4 33.5,-4 33.5,3.75 34,3.75 34,-3.1 34.5,-3.1 34.5,3.75 34.963,3.75 34.963,-3.1 35.5,-3.1 35.5,3.75 36,3.75 36,-2.5 36.5,-2.5 36.5,3.75 37,3.75 37,-2.5 37.5,-2.5 37.5,3.75 38,3.75 38,-2.5 38.5,-2.5 38.5,3.75 39,3.75 39,-2.5 39.5,-2.5 39.5,3.75 40,3.75 40,-2.5 40.5,-2.5 40.5,3.75 41,3.75 41,-2.5 41.5,-2.5 41.5,3.75 42,3.75 42,-2.5 42.5,-2.5 42.5,3.75 43,3.75 43,-2.5 43.5,-2.5 43.5,3.75 44,3.75 44,-2.5 44.5,-2.5 44.5,3.75 45,3.75 45,-2.5 45.5,-2.5 45.5,3.75 46,3.75 46,-2.5 46.5,-2.5 46.5,3.75 47,3.75 47,-2.5 47.5,-2.5 47.5,3.75 48,3.75 48,-2.5 48.5,-2.5 48.5,3.75 49,3.75 49,-2.5 49.5,-2.5 49.5,3.75 50,3.75 50,-2.5 50.5,-2.5 50.5,3.75 51,3.75 51,-2.5 51.5,-2.5 51.5,3.75 52,3.75 52,-2.5 52.5,-2.5 52.5,3.75 53,3.75 53,-2.5 53.5,-2.5 53.5,3.75 54,3.75 54,-2.5 54.5,-2.5 54.5,3.75 55,3.75 55,-2.5 55.5,-2.5 55.5,4.25 15.5,4.25 15.5,4.75 15.5,12.5 16,12.5 16,4.75 16.5,4.75 16.5,12.5 17,12.5 17,4.75 17.5,4.75 17.5,12.5 18,12.5 18,4.75 18.5,4.75 18.5,12.5 19,12.5 19,4.75 19.5,4.75 19.5,12.5 20,12.5 20,4.75 20.5,4.75 20.5,12.5 21,12.5 21,4.75 21.5,4.75 21.5,12.5 22,12.5 22,4.75 22.5,4.75 22.5,12.5 23,12.5 23,4.75 23.5,4.75 23.5,12.5 24,12.5 24,4.75 24.5,4.75 24.5,12.5 25,12.5 25,4.75 25.5,4.75 25.5,12.5 26,12.5 26,4.75 26.5,4.75 26.5,12.5 27,12.5 27,4.75 27.5,4.75 27.5,12.5 28,12.5 28,4.75 28.5,4.75 28.5,12.5 29,12.5 29,4.75 29.5,4.75 29.5,12.5 30,12.5 30,4.75 30.5,4.75 30.5,12.5 31,12.5 31,4.75 31.5,4.75 31.5,12.5 32,12.5 32,4.75 32.5,4.75 32.5,12.5 33,12.5 33,4.75 33.5,4.75 33.5,12.5 34,12.5 34,5.65 34.5,5.65 34.5,12.5 34.963,12.5 34.963,5.65 35.5,5.65 35.5,12.5 36,12.5 36,6.25 36.5,6.25 36.5,12.5 37,12.5 37,6.25 37.5,6.25 37.5,12.5 38,12.5 38,6.25 38.5,6.25 38.5,12.5 39,12.5 39,6.25 39.5,6.25 39.5,12.5 40,12.5 40,6.25 40.5,6.25 40.5,12.5 41,12.5 41,6.25 41.5,6.25 41.5,12.5 42,12.5 42,6.25 42.5,6.25 42.5,12.5 43,12.5 43,6.25 43.5,6.25 43.5,12.5 44,12.5 44,6.25 44.5,6.25 44.5,12.5 45,12.5 45,6.25 45.5,6.25 45.5,12.5 46,12.5 46,6.25 46.5,6.25 46.5,12.5 47,12.5 47,6.25 47.5,6.25 47.5,12.5 48,12.5 48,6.25 48.5,6.25 48.5,12.5 49,12.5 49,6.25 49.5,6.25 49.5,12.5 50,12.5 50,6.25 50.5,6.25 50.5,12.5 51,12.5 51,6.25 51.5,6.25 51.5,12.5 52,12.5 52,6.25 52.5,6.25 52.5,12.5 53,12.5 53,6.25 53.5,6.25 53.5,12.5 54,12.5 54,6.25 54.5,6.25 54.5,12.5 55,12.5 55,6.25 55.5,6.25 55.5,13 15.5,13 15.5,13.5 15.5,16 16,16 16,13.5 16.5,13.5 16.5,16 17,16 17,13.5 17.5,13.5 17.5,16 18,16 18,13.5 18.5,13.5 18.5,16 19,16 19,13.5 19.5,13.5 19.5,16 20,16 20,13.5 20.5,13.5 20.5,16 21,16 21,13.5 21.5,13.5 21.5,16 22,16 22,13.5 22.5,13.5 22.5,16 23,16 23,13.5 23.5,13.5 23.5,16 24,16 24,13.5 24.5,13.5 24.5,16 25,16 25,13.5 25.5,13.5 25.5,16 26,16 26,13.5 26.5,13.5 26.5,16 27,16 27,13.5 27.5,13.5 27.5,16 28,16 28,13.5 28.5,13.5 28.5,16 29,16 29,13.5 29.5,13.5 29.5,16 30,16 30,13.5 30.5,13.5 30.5,16 31,16 31,13.5 31.5,13.5 31.5,16 32,16 32,13.5 32.5,13.5 32.5,16 33,16 33,13.5 33.5,13.5 33.5,16 34,16 34,14.4 34.5,14.4 34.5,16 34.963,16 34.963,14.4 35.5,14.4 35.5,16 36,16 36,15 36.5,15 36.5,16 37,16 37,15 37.5,15 37.5,16 38,16 38,15 38.5,15 38.5,16 39,16 39,15 39.5,15 39.5,16 40,16 40,15 40.5,15 40.5,16 41,16 41,15 41.5,15 41.5,16 42,16 42,15 42.5,15 42.5,16 43,16 43,15 43.5,15 43.5,16 44,16 44,15 44.5,15 44.5,16 45,16 45,15 45.5,15 45.5,16 46,16 46,15 46.5,15 46.5,16 47,16 47,15 47.5,15 47.5,16 48,16 48,15 48.5,15 48.5,16 49,16 49,15 49.5,15 49.5,16 50,16 50,15 50.5,15 50.5,16 51,16 51,15 51.5,15 51.5,16 52,16 52,15 52.5,15 52.5,16 53,16 53,15 53.5,15 53.5,16 54,16 54,15 54.5,15 54.5,16 55,16 55,15 55.5,15 55.5,16.5 15.5,16.5 15,16.5 14.5,16
  lines w0.75: 0,-7 0,-8.5 14.5,-23 ; 0,-3.5 6.5,-3.5 8,-5 14.5,-5 ; 0,0 0,1.5 14.5,16 ; 14.5,-6.5 8,-6.5 ; 8,-6.5 8,-6.5